# Altium footprint library CDRH127221M.PcbLib: 1 footprints
Each footprint in its own frame and in the unit in brackets; x right, y up, seen from the top. Pads: shape width x height; smd on the part's side, far side on the other; paste and mask are expansions set on the pad; w line width, h text height; cw(c..) or ccw(c..) is an arc to the next point about the centre after c.
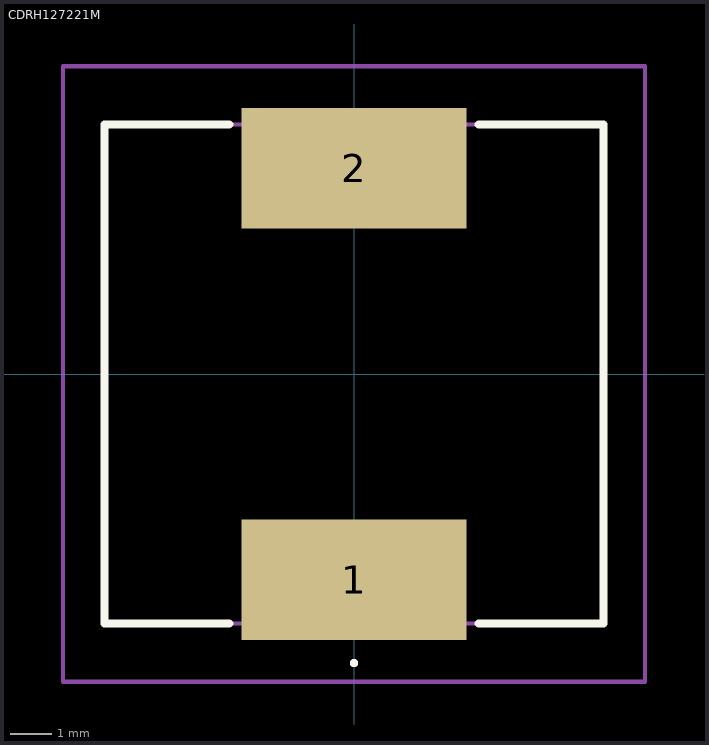
[diagram p0: the footprint, top view; thin cyan lines are the x and y axes]

## CDRH127221M [mm]
pads (2):
  rect 5.4x2.9 smd: 1(0,-4.95) 2(0,4.95)
Top Overlay:
  lines w0.1: 0,-7 0,-7 ; 0,-7 ccw(c0,-6.95) 0,-6.9 ; 0,-7 cw(c0,-6.95) 0,-6.9 ; 0,-6.9 0,-6.9
  lines w0.2: -3,-6 -6,-6 -6,6 -3,6 ; 3,-6 6,-6 6,6 3,6
Mechanical 15:
  lines w0.1: -6,-6 6,-6 6,6 -6,6 -6,-6
Mechanical 20:
  lines w0.1: -7,-7.4 7,-7.4 7,7.4 -7,7.4 -7,-7.4